# EAGLE library part 691356300010B (library WR-TBL Pluggable Connector)
WR-TBL Serie 356B - 3.81 mm Double Level Vertical Male PCB Header KIND PROPERTIES Pitch 3.81 mm MATERIAL PROPERTIES Insulator Material PA66 Insulator Flammability Rating UL94 V-0 Contact Material Brass Contact Plating Tin GENERAL INFORMATION Operating Temperature -40 up to +105 °C Compliance RoHS ELECTRICAL PROPERTIES IR UL 10 A Working Voltage [UL] 300 V (AC) Withstanding Voltage [cULus] 2000 V (AC) Contact Resistance [cULus] 20 mΩ CERTIFICATION cULus Approval E315414 <https://www.we-online.com/catalog/media/o60701v209%20WR-TBL_356B_6913563000xx_pf2.jpg> Details see: https://www.we-online.com/catalog/en/TBL_3_81_356B_DOUBLE_LEVEL_VERTICAL_MALE_PCB_HEADER_6913563000XXB/ Updated by Ella Wu 2019-12-23 2022(C) Wurth Elektronik
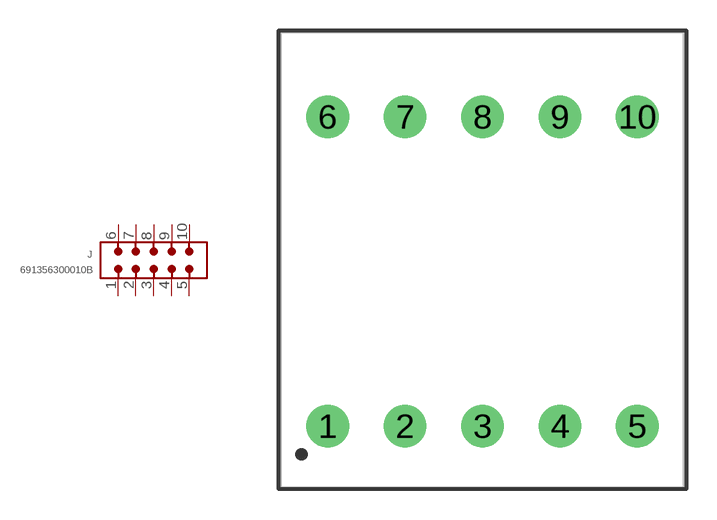
[diagram p84: symbol with the pads of 691356300010B; footprint 691356300010B]

Designator prefix J

## 691356300010B (DATASHEET-URL: https://www.we-online.com/redexpert/spec/691356300010B?ae; IR-UL: 10A; MOUNT: THT; PART-NUMBER: 691356300010B; PINS: 10; PITCH: 3.81mm; TYPE: Double Level Vertical; VALUE: 691356300010B; WORKING-VOLTAGE-UL: 300V (AC))  [691356300010B]
1  1  pas
2  2  pas
3  3  pas
4  4  pas
5  5  pas
6  6  pas
7  7  pas
8  8  pas
9  9  pas
10  10  pas

## Footprint 691356300010B (pad centres in mm)
WR-TBL Serie 356B - 3.81 mm Double Level Vertical Male PCB Header Max Height = 21.9mm , Pitch 3.81mm , 10pins
drill 1.4: 1 -7.62,-7.62; 2 -3.81,-7.62; 3 0,-7.62; 4 3.81,-7.62; 5 7.62,-7.62; 6 -7.62,7.62; 7 -3.81,7.62; 8 0,7.62; 9 3.81,7.62; 10 7.62,7.62